# Altium schematic symbol library ethernet.SchLib: 49 symbols (part 2 of 2)
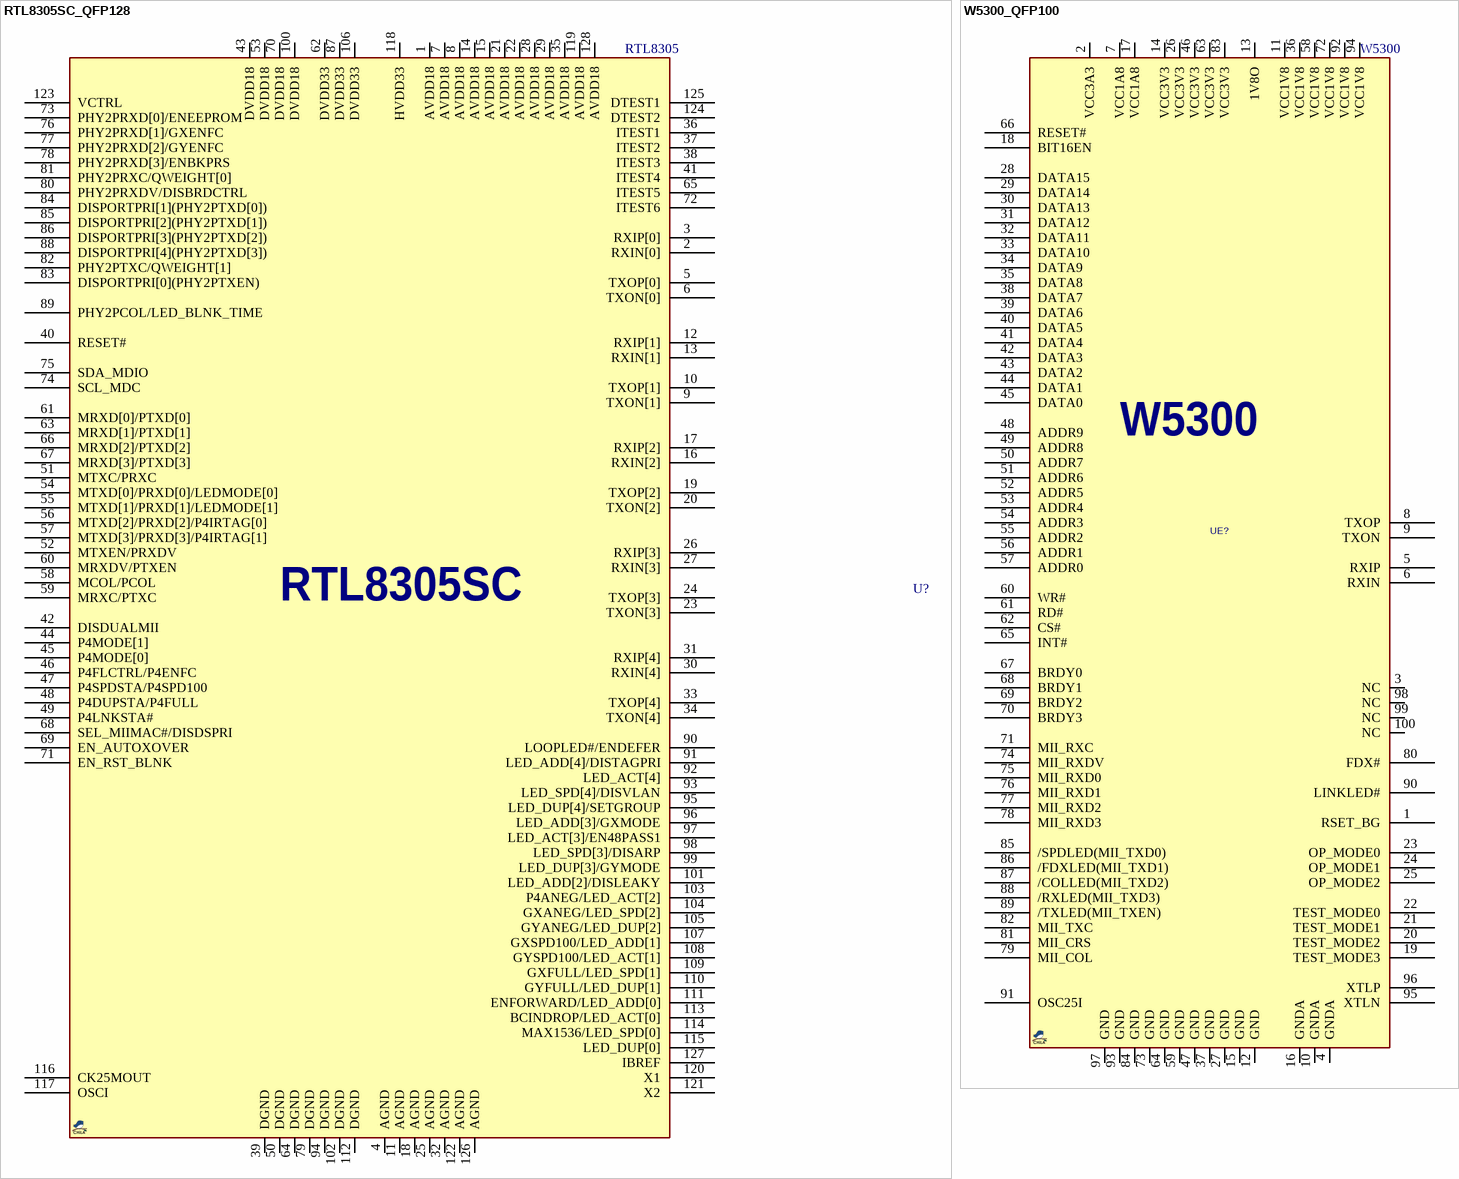
[diagram p11: symbols RTL8305SC_QFP128 to W5300_QFP100]

## RTL8305SC_QFP128
designator U?, comment RTL8305
Ethernet Transceiver, 5-port 10/100, MII; MANF: Realtek; MANF_P#: RTL8305SC; PARAM2: 1.8v and 3.3v; VALUE: RTL8305
footprint QFG50_128T (128-Leads, Body 20X14mm, Pitch 0.50mm)
pins: 1 AVDD18, 2 RXIN[0], 3 RXIP[0], 4 AGND, 5 TXOP[0], 6 TXON[0], 7 AVDD18, 8 AVDD18, 9 TXON[1], 10 TXOP[1], 11 AGND, 12 RXIP[1], 13 RXIN[1], 14 AVDD18, 15 AVDD18, 16 RXIN[2], 17 RXIP[2], 18 AGND, 19 TXOP[2], 20 TXON[2], 21 AVDD18, 22 AVDD18, 23 TXON[3], 24 TXOP[3], 25 AGND, 26 RXIP[3], 27 RXIN[3], 28 AVDD18, 29 AVDD18, 30 RXIN[4], 31 RXIP[4], 32 AGND, 33 TXOP[4], 34 TXON[4], 35 AVDD18, 36 ITEST1, 37 ITEST2, 38 ITEST3, 39 DGND, 40 RESET#, 41 ITEST4, 42 DISDUALMII, 43 DVDD18, 44 P4MODE[1], 45 P4MODE[0], 46 P4FLCTRL/P4ENFC, 47 P4SPDSTA/P4SPD100, 48 P4DUPSTA/P4FULL, 49 P4LNKSTA#, 50 DGND, 51 MTXC/PRXC, 52 MTXEN/PRXDV, 53 DVDD18, 54 MTXD[0]/PRXD[0]/LEDMODE[0], 55 MTXD[1]/PRXD[1]/LEDMODE[1], 56 MTXD[2]/PRXD[2]/P4IRTAG[0], 57 MTXD[3]/PRXD[3]/P4IRTAG[1], 58 MCOL/PCOL, 59 MRXC/PTXC, 60 MRXDV/PTXEN, 61 MRXD[0]/PTXD[0], 62 DVDD33, 63 MRXD[1]/PTXD[1], 64 DGND, 65 ITEST5, 66 MRXD[2]/PTXD[2], 67 MRXD[3]/PTXD[3], 68 SEL_MIIMAC#/DISDSPRI, 69 EN_AUTOXOVER, 70 DVDD18, 71 EN_RST_BLNK, 72 ITEST6, 73 PHY2PRXD[0]/ENEEPROM, 74 SCL_MDC, 75 SDA_MDIO, 76 PHY2PRXD[1]/GXENFC, 77 PHY2PRXD[2]/GYENFC, 78 PHY2PRXD[3]/ENBKPRS, 79 DGND, 80 PHY2PRXDV/DISBRDCTRL, 81 PHY2PRXC/QWEIGHT[0], 82 PHY2PTXC/QWEIGHT[1], 83 DISPORTPRI[0](PHY2PTXEN), 84 DISPORTPRI[1](PHY2PTXD[0]), 85 DISPORTPRI[2](PHY2PTXD[1]), 86 DISPORTPRI[3](PHY2PTXD[2]), 87 DVDD33, 88 DISPORTPRI[4](PHY2PTXD[3]), 89 PHY2PCOL/LED_BLNK_TIME, 90 LOOPLED#/ENDEFER, 91 LED_ADD[4]/DISTAGPRI, 92 LED_ACT[4], 93 LED_SPD[4]/DISVLAN, 94 DGND, 95 LED_DUP[4]/SETGROUP, 96 LED_ADD[3]/GXMODE, 97 LED_ACT[3]/EN48PASS1, 98 LED_SPD[3]/DISARP, 99 LED_DUP[3]/GYMODE, 100 DVDD18, 101 LED_ADD[2]/DISLEAKY, 102 DGND, 103 P4ANEG/LED_ACT[2], 104 GXANEG/LED_SPD[2], 105 GYANEG/LED_DUP[2], 106 DVDD33, 107 GXSPD100/LED_ADD[1], 108 GYSPD100/LED_ACT[1], 109 GXFULL/LED_SPD[1], 110 GYFULL/LED_DUP[1], 111 ENFORWARD/LED_ADD[0], 112 DGND, 113 BCINDROP/LED_ACT[0], 114 MAX1536/LED_SPD[0], 115 LED_DUP[0], 116 CK25MOUT, 117 OSCI, 118 HVDD33, 119 AVDD18, 120 X1, 121 X2, 122 AGND, 123 VCTRL, 124 DTEST2, 125 DTEST1, 126 AGND, 127 IBREF, 128 AVDD18

## W5300_QFP100
designator UE?, comment W5300
Ethernet Controller, 10/100, MII, DMA; MANF: WIZNET; MANF_P#: W5300; VALUE: W5300
footprint QFG50_100 (LQFP100, PQFP100, A100 (Cypress), TQ100/VQ100 (Xilinx), 14.0x14.0mm, Pitch 0.5mm, HT100, HTG100)
pins: 1 RSET_BG, 2 VCC3A3, 3 NC, 4 GNDA, 5 RXIP, 6 RXIN, 7 VCC1A8, 8 TXOP, 9 TXON, 10 GNDA, 11 VCC1V8, 12 GND, 13 1V8O, 14 VCC3V3, 15 GND, 16 GNDA, 17 VCC1A8, 18 BIT16EN, 19 TEST_MODE3, 20 TEST_MODE2, 21 TEST_MODE1, 22 TEST_MODE0, 23 OP_MODE0, 24 OP_MODE1, 25 OP_MODE2, 26 VCC3V3, 27 GND, 28 DATA15, 29 DATA14, 30 DATA13, 31 DATA12, 32 DATA11, 33 DATA10, 34 DATA9, 35 DATA8, 36 VCC1V8, 37 GND, 38 DATA7, 39 DATA6, 40 DATA5, 41 DATA4, 42 DATA3, 43 DATA2, 44 DATA1, 45 DATA0, 46 VCC3V3, 47 GND, 48 ADDR9, 49 ADDR8, 50 ADDR7, 51 ADDR6, 52 ADDR5, 53 ADDR4, 54 ADDR3, 55 ADDR2, 56 ADDR1, 57 ADDR0, 58 VCC1V8, 59 GND, 60 WR#, 61 RD#, 62 CS#, 63 VCC3V3, 64 GND, 65 INT#, 66 RESET#, 67 BRDY0, 68 BRDY1, 69 BRDY2, 70 BRDY3, 71 MII_RXC, 72 VCC1V8, 73 GND, 74 MII_RXDV, 75 MII_RXD0, 76 MII_RXD1, 77 MII_RXD2, 78 MII_RXD3, 79 MII_COL, 80 FDX#, 81 MII_CRS, 82 MII_TXC, 83 VCC3V3, 84 GND, 85 /SPDLED(MII_TXD0), 86 /FDXLED(MII_TXD1), 87 /COLLED(MII_TXD2), 88 /RXLED(MII_TXD3), 89 /TXLED(MII_TXEN), 90 LINKLED#, 91 OSC25I, 92 VCC1V8, 93 GND, 94 VCC1V8, 95 XTLN, 96 XTLP, 97 GND, 98 NC, 99 NC, 100 NC